# Altium integrated library ST Sensor Proximity Detector.IntLib: 4 symbols
Pins are listed as number, name and electrical type; pins without a type are passive.

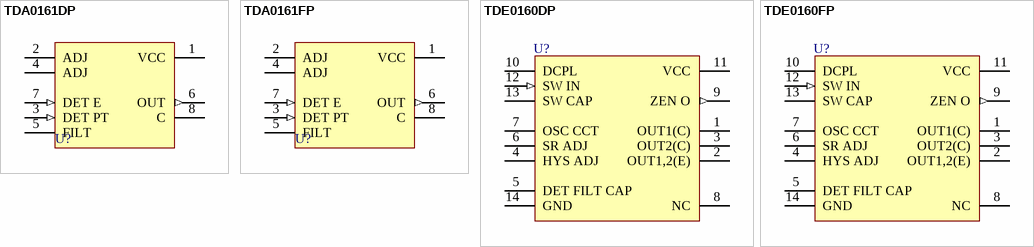
[diagram p0: symbols TDA0161DP to TDE0160FP]

## TDA0161DP
designator U?
Proximity Detector; Published: 24-Aug-2001; LatestRevisionDate: 17-Jul-2002; LatestRevisionNote: Re-released for DXP Platform.; DatasheetDocument: Apr-1993; PackageReference: DIP8; Publisher: Altium Limited; Code_JEDEC: MO-001-AN
footprint DIP8 (DIP; 8 Leads; Row Spacing 7.62 mm; Pitch 2.54 mm)
pins: 1 VCC (power), 2 ADJ, 3 DET PT (in), 4 ADJ, 5 FILT, 6 OUT (out), 7 DET E (in), 8 C

## TDA0161FP
designator U?
Proximity Detector; Published: 24-Aug-2001; LatestRevisionDate: 17-Jul-2002; LatestRevisionNote: Re-released for DXP Platform.; DatasheetDocument: Apr-1993; PackageDocument: Jul-1998; PackageReference: SO8; Publisher: Altium Limited; Code_JEDEC: MS-012-AA; Code_IPC: SO8
footprint SO8 (Small Outline; 8 Leads; Body Width 3.9 mm; Pitch 1.27 mm)
pins: 1 VCC (power), 2 ADJ, 3 DET PT (in), 4 ADJ, 5 FILT, 6 OUT (out), 7 DET E (in), 8 C

## TDE0160DP
designator U?
Proximity Detector; Published: 24-Aug-2001; LatestRevisionDate: 17-Jul-2002; LatestRevisionNote: Re-released for DXP Platform.; DatasheetDocument: Apr-1993; PackageDocument: Jan-1997; PackageReference: DIP14; Publisher: Altium Limited
footprint DIP14 (DIP; 14 Leads; Row Spacing 7.62 mm; Pitch 2.54 mm)
pins: 1 OUT1(C) (oc), 2 OUT1,2(E) (oe), 3 OUT2(C) (oc), 4 HYS ADJ, 5 DET FILT CAP, 6 SR ADJ, 7 OSC CCT, 8 NC, 9 ZEN O (out), 10 DCPL, 11 VCC (power), 12 SW IN (in), 13 SW CAP, 14 GND (power)

## TDE0160FP
designator U?
Proximity Detector; Published: 24-Aug-2001; LatestRevisionDate: 17-Jul-2002; LatestRevisionNote: Re-released for DXP Platform.; DatasheetDocument: Apr-1993; PackageDocument: Sep-1998; PackageReference: SO14; Publisher: Altium Limited
footprint SO14 (Small Outline; 14 Leads; Body Width 3.9 mm; Pitch 1.27 mm)
pins: 1 OUT1(C) (oc), 2 OUT1,2(E) (oe), 3 OUT2(C) (oc), 4 HYS ADJ, 5 DET FILT CAP, 6 SR ADJ, 7 OSC CCT, 8 NC, 9 ZEN O (out), 10 DCPL, 11 VCC (power), 12 SW IN (in), 13 SW CAP, 14 GND (power)